# EAGLE library part BMS_BQ2057 (library 1_ZeroUI)
BQ2057- 2 Cell Lithium Battery Charger The BENCHMARQ bq2057 series advanced Lithium-Ion (Li-Ion) and Lithium-Polymer (Li-Pol) linear charge-management ICs are designed for costsensitive and compact portable electronics. They combine high-accuracy current and voltage regulation, battery conditioning, temperature monitoring, charge termination, charge-status indication, and AutoComp charge-rate compensation in a single 8-pin IC. MSOP, TSSOP, and SOIC package options are offered to fit a wide range of end applications http://www.ti.com/lit/ds/symlink/bq2057c.pdf
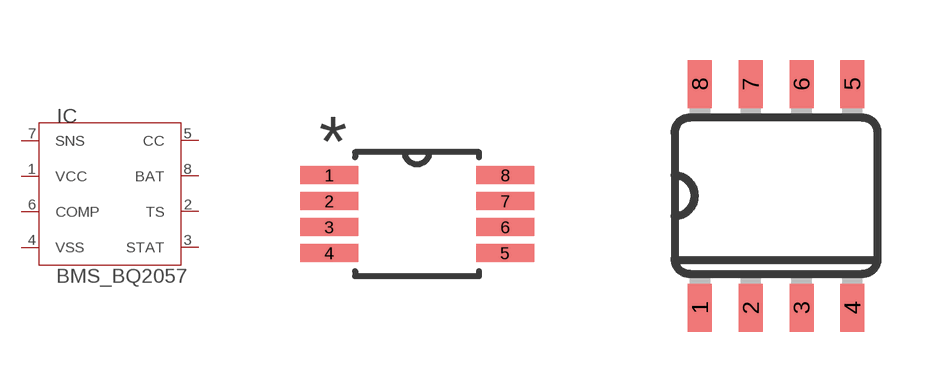
[diagram p14: symbol with the pads of DGK8; footprints DGK8, SOIC-8-TIGHT]

Designator prefix IC

## BMS_BQ2057DGK8 (3D_LIBRARY_NAME: TI_AllParts_2012-12-25; COPYRIGHT: Copyright (C) 2015 Accelerated Designs. All rights reserved; DATASHEETURL: http://www.ti.com/lit/gpn/BQ2057C; FAMILY_NAME: BATTERY CHARGE MANAGEMENT; GENERIC_PART_NUMBER: BQ2057C; INDUSTRY_STD_PKG_TYPE: MSOP; MANUFACTURER: Texas Instruments; MANUFACTURER_PART_NUMBER: BQ2057CDGKR; PACKAGE_DESIGNATOR: DGK; PIN_COUNT: 8; VALUE: BQ2057CDGKR; VENDOR: Vendor)  [DGK8]
1  VCC  pwr
2  TS  in
3  STAT  out
4  VSS  pwr
5  CC  out
6  COMP  in
7  SNS  in
8  BAT  in

## BMS_BQ2057WSNTR (DATASHEETURL: http://www.ti.com/lit/ds/symlink/bq2057c.pdf; VALUE: BQ2057WSNTR)  [SOIC-8-TIGHT]
1  SNS  in
2  BAT  in
3  VCC  pwr
4  TS  in
5  STAT  out
6  VSS  pwr
7  CC  out
8  COMP  in

## Footprint DGK8 (pad centres in mm)
smd 1.45 x 0.45: 1 -2.2,0.975; 2 -2.2,0.325; 3 -2.2,-0.325; 4 -2.2,-0.975; 5 2.2,-0.975; 6 2.2,-0.325; 7 2.2,0.325; 8 2.2,0.975

## Footprint SOIC-8-TIGHT (pad centres in mm)
smd 0.6 x 1.2: 1 -1.905,-2.8; 2 -0.635,-2.8; 3 0.635,-2.8; 4 1.905,-2.8; 5 1.905,2.8; 6 0.635,2.8; 7 -0.635,2.8; 8 -1.905,2.8